# EAGLE library part OUTTER_PADS_100PIN (library Breakout_Boards)
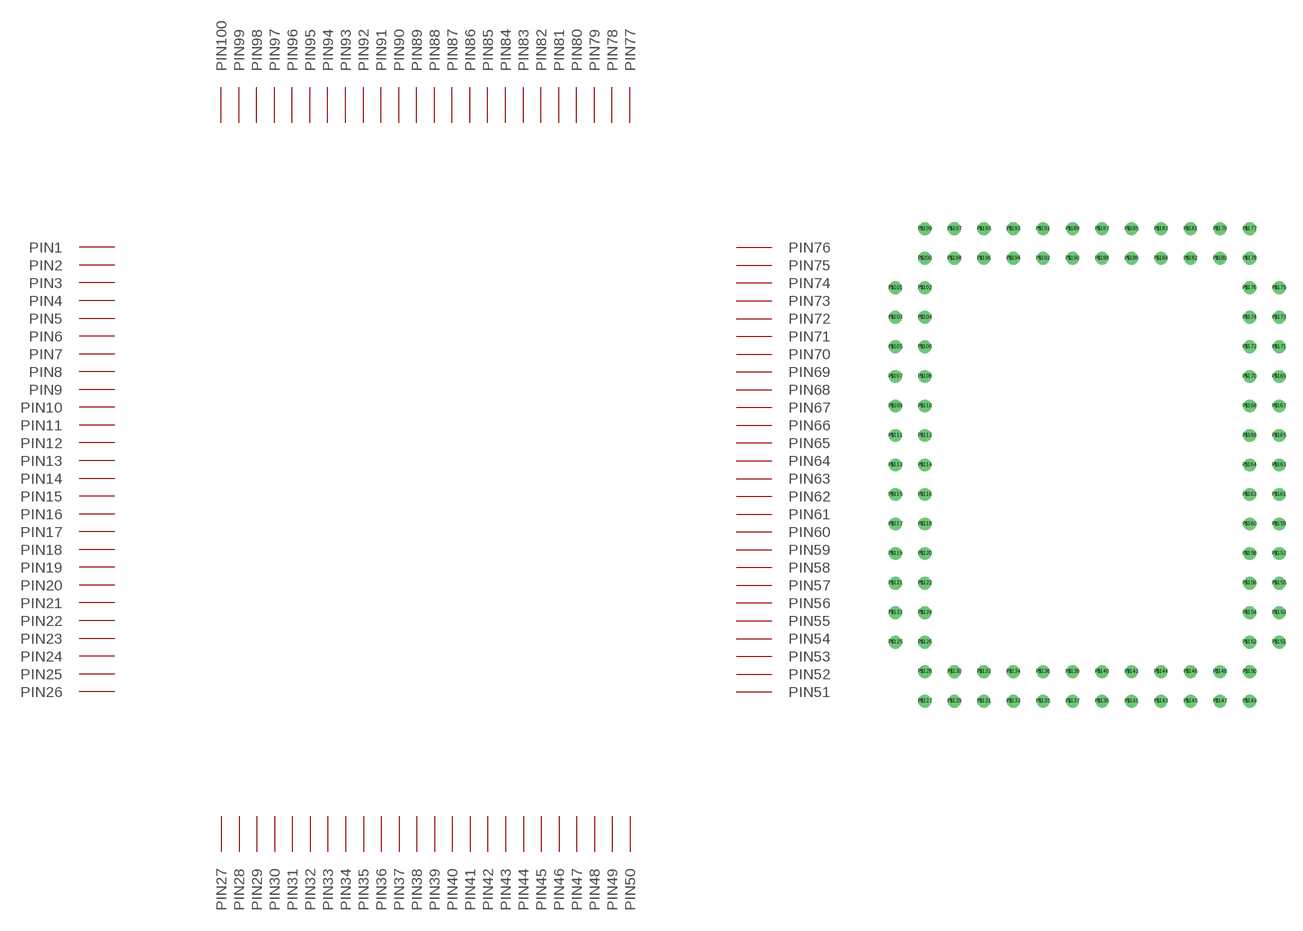
[diagram p0: symbol with the pads of TQFP_100_PIN_DIN; footprint TQFP_100_PIN_DIN]

Designator prefix -

## OUTTER_PADS_100PIN  [TQFP_100_PIN_DIN]
P$101  PIN1
P$102  PIN2
P$103  PIN3
P$104  PIN4
P$105  PIN5
P$106  PIN6
P$107  PIN7
P$108  PIN8
P$109  PIN9
P$110  PIN10
P$111  PIN11
P$112  PIN12
P$113  PIN13
P$114  PIN14
P$115  PIN15
P$116  PIN16
P$117  PIN17
P$118  PIN18
P$119  PIN19
P$120  PIN20
P$121  PIN21
P$122  PIN22
P$123  PIN23
P$124  PIN24
P$125  PIN25
P$126  PIN26
P$127  PIN27
P$128  PIN28
P$129  PIN29
P$130  PIN30
P$131  PIN31
P$132  PIN32
P$133  PIN33
P$134  PIN34
P$135  PIN35
P$136  PIN36
P$137  PIN37
P$138  PIN38
P$139  PIN39
P$140  PIN40
P$141  PIN41
P$142  PIN42
P$143  PIN43
P$144  PIN44
P$145  PIN45
P$146  PIN46
P$147  PIN47
P$148  PIN48
P$149  PIN49
P$150  PIN50
P$151  PIN51
P$152  PIN52
P$153  PIN53
P$154  PIN54
P$155  PIN55
P$156  PIN56
P$157  PIN57
P$158  PIN58
P$159  PIN59
P$160  PIN60
P$161  PIN61
P$162  PIN62
P$163  PIN63
P$164  PIN64
P$165  PIN65
P$166  PIN66
P$167  PIN67
P$168  PIN68
P$169  PIN69
P$170  PIN70
P$171  PIN71
P$172  PIN72
P$173  PIN73
P$174  PIN74
P$175  PIN75
P$176  PIN76
P$177  PIN77
P$178  PIN78
P$179  PIN79
P$180  PIN80
P$181  PIN81
P$182  PIN82
P$183  PIN83
P$184  PIN84
P$185  PIN85
P$186  PIN86
P$187  PIN87
P$188  PIN88
P$189  PIN89
P$190  PIN90
P$191  PIN91
P$192  PIN92
P$193  PIN93
P$194  PIN94
P$195  PIN95
P$196  PIN96
P$197  PIN97
P$198  PIN98
P$199  PIN99
P$200  PIN100

## Footprint TQFP_100_PIN_DIN (pad centres in mm)
drill 0.6: P$101 -16.51,15.24; P$102 -13.97,15.24; P$103 -16.51,12.7; P$104 -13.97,12.7; P$105 -16.51,10.16; P$106 -13.97,10.16; P$107 -16.51,7.62; P$108 -13.97,7.62; P$109 -16.51,5.08; P$110 -13.97,5.08; P$111 -16.51,2.54; P$112 -13.97,2.54; P$113 -16.51,0; P$114 -13.97,0; P$115 -16.51,-2.54; P$116 -13.97,-2.54; P$117 -16.51,-5.08; P$118 -13.97,-5.08; P$119 -16.51,-7.62; P$120 -13.97,-7.62; P$121 -16.51,-10.16; P$122 -13.97,-10.16; P$123 -16.51,-12.7; P$124 -13.97,-12.7; P$125 -16.51,-15.24; P$126 -13.97,-15.24; P$127 -13.97,-20.32; P$128 -13.97,-17.78; P$129 -11.43,-20.32; P$130 -11.43,-17.78; P$131 -8.89,-20.32; P$132 -8.89,-17.78; P$133 -6.35,-20.32; P$134 -6.35,-17.78; P$135 -3.81,-20.32; P$136 -3.81,-17.78; P$137 -1.27,-20.32; P$138 -1.27,-17.78; P$139 1.27,-20.32; P$140 1.27,-17.78; P$141 3.81,-20.32; P$142 3.81,-17.78; P$143 6.35,-20.32; P$144 6.35,-17.78; P$145 8.89,-20.32; P$146 8.89,-17.78; P$147 11.43,-20.32; P$148 11.43,-17.78; P$149 13.97,-20.32; P$150 13.97,-17.78; P$151 16.51,-15.24; P$152 13.97,-15.24; P$153 16.51,-12.7; P$154 13.97,-12.7; P$155 16.51,-10.16; P$156 13.97,-10.16; P$157 16.51,-7.62; P$158 13.97,-7.62; P$159 16.51,-5.08; P$160 13.97,-5.08; P$161 16.51,-2.54; P$162 13.97,-2.54; P$163 16.51,0; P$164 13.97,0; P$165 16.51,2.54; P$166 13.97,2.54; P$167 16.51,5.08; P$168 13.97,5.08; P$169 16.51,7.62; P$170 13.97,7.62; P$171 16.51,10.16; P$172 13.97,10.16; P$173 16.51,12.7; P$174 13.97,12.7; P$175 16.51,15.24; P$176 13.97,15.24; P$177 13.97,20.32; P$178 13.97,17.78; P$179 11.43,20.32; P$180 11.43,17.78; P$181 8.89,20.32; P$182 8.89,17.78; P$183 6.35,20.32; P$184 6.35,17.78; P$185 3.81,20.32; P$186 3.81,17.78; P$187 1.27,20.32; P$188 1.27,17.78; P$189 -1.27,20.32; P$190 -1.27,17.78; P$191 -3.81,20.32; P$192 -3.81,17.78; P$193 -6.35,20.32; P$194 -6.35,17.78; P$195 -8.89,20.32; P$196 -8.89,17.78; P$197 -11.43,20.32; P$198 -11.43,17.78; P$199 -13.97,20.32; P$200 -13.97,17.78